# Altium footprint library MLCC.PcbLib: 10 footprints
Each footprint in its own frame and in the unit in brackets; x right, y up, seen from the top. Pads: shape width x height; smd on the part's side, far side on the other; paste and mask are expansions set on the pad; w line width, h text height; cw(c..) or ccw(c..) is an arc to the next point about the centre after c.
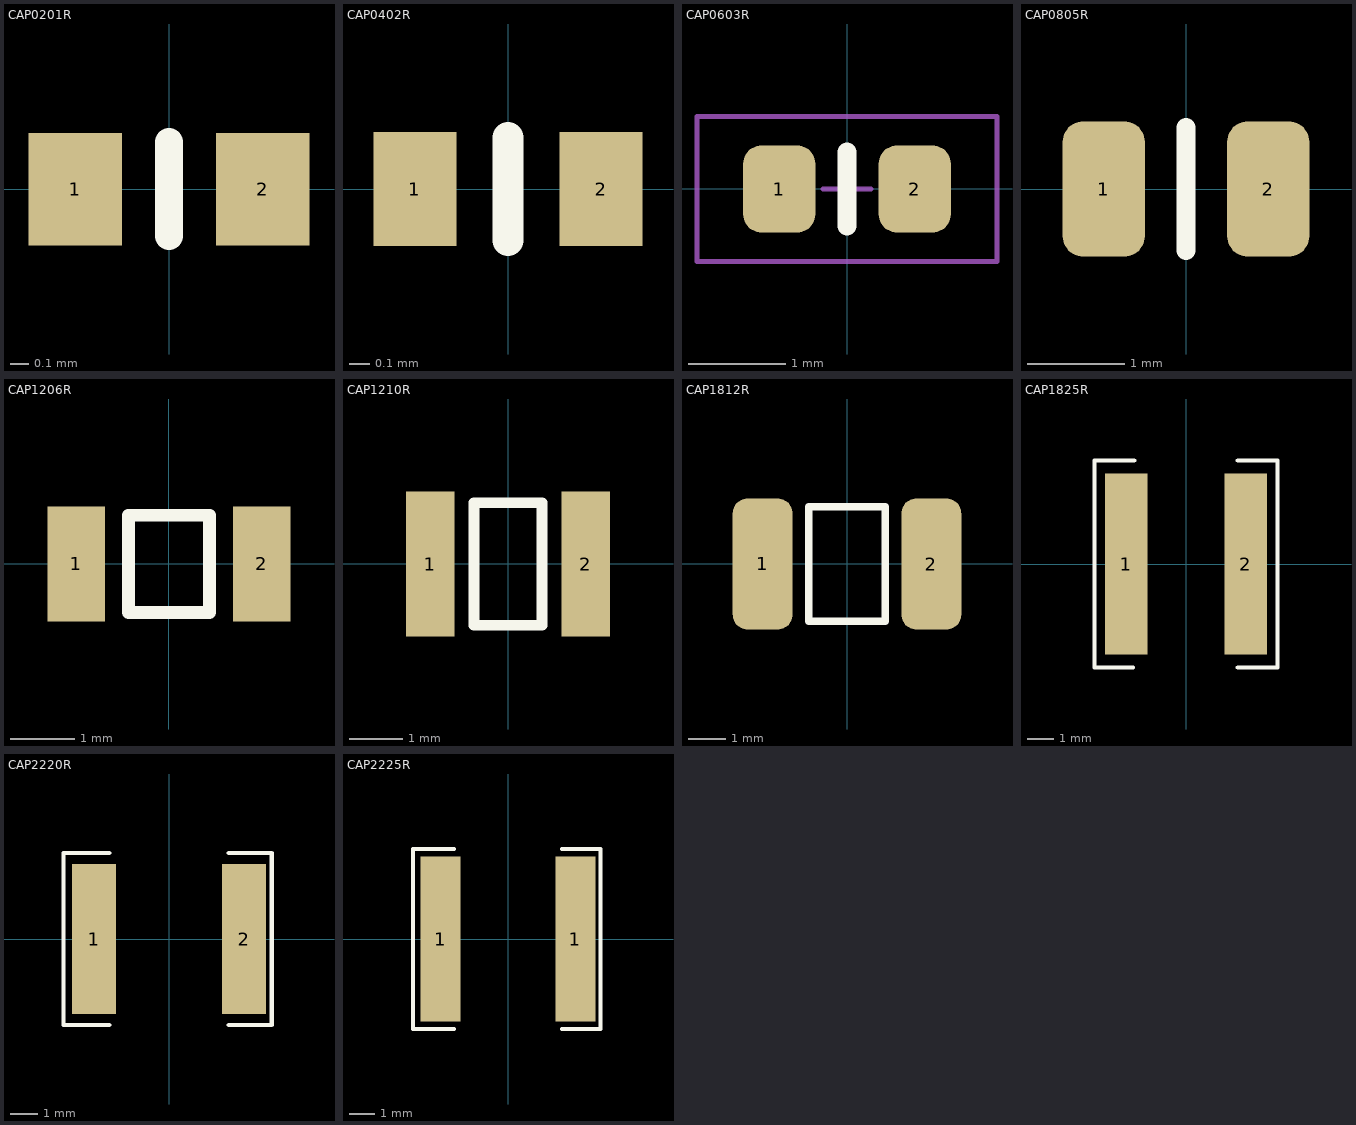
[diagram p0: the footprints below, top view; thin cyan lines are the x and y axes]

## CAP0201R [mm] "Capacitor 0402 reflow soldering"
pads (2):
  rect 0.5x0.6 smd: 1(-0.5,0) 2(0.5,0)
Top Overlay:
  lines w0.15: 0,-0.25 0,0.25
3D body "User Library-CAP_SMD-1.step": height 0.56, standoff 0.01, extent -0.525,-0.275 0.525,0.275

## CAP0402R [mm] "Capacitor 0402 reflow soldering"
pads (2):
  rect 0.4x0.55 smd: 1(-0.45,0) 2(0.45,0)
Top Overlay:
  lines w0.15: 0,-0.25 0,0.25
3D body "User Library-CAP_SMD-1.step": height 0.56, standoff 0.01, extent -0.525,-0.275 0.525,0.275

## CAP0603R [mm] "capacitor 0603 reflow soldering"
pads (2):
  rrect50% 0.745x0.9 smd: 1(-0.7,0) 2(0.7,0)
Top Overlay:
  lines w0.2: 0,-0.381 0,0.381
Mechanical 15:
  lines w0.05: -0.25,0 0.25,0 ; 0,-0.25 0,0.25 ; -1.55,-0.75 -1.55,0.75 1.55,0.75 1.55,-0.75 -1.55,-0.75
3D body "0603_CAP_2.STEP": height 0.81, standoff 0.01, extent -0.8,-0.4 0.8,0.4

## CAP0805R [mm] "capacitor 0805 reflow soldering"
pads (2):
  rrect50% 0.85x1.4 smd: 1(-0.85,0) 2(0.85,0)
Top Overlay:
  lines w0.2: 0,-0.635 0,0.635
3D body "0805_CAP.STEP": height 0.61, standoff 0.01, extent -1,-0.625 1,0.625

## CAP1206R [mm] "capacitor 1206 reflow soldering"
pads (2):
  rect 0.9x1.8 smd: 1(-1.45,0) 2(1.45,0)
Top Overlay:
  lines w0.2: -0.635,-0.762 0.635,-0.762 0.635,0.762 -0.635,0.762 -0.635,-0.762
3D body "1206_CAP.STEP": height 0.79, standoff 0.01, extent -1.6,-0.8 1.6,0.8

## CAP1210R [mm] "capacitor 1210 reflow soldering"
pads (2):
  rect 0.9x2.7 smd: 1(-1.45,0) 2(1.45,0)
Top Overlay:
  lines w0.2: -0.635,-1.143 0.635,-1.143 0.635,1.143 -0.635,1.143 -0.635,-1.143
3D body "User Library-cap_1210_lowprofile.step": height 1.3, standoff 0, extent -1.6,-1.25 1.6,1.25

## CAP1812R [mm] "capacitor 1812 reflow soldering"
pads (2):
  rrect50% 1.6x3.5 smd: 1(-2.25,0) 2(2.25,0)
Top Overlay:
  lines w0.2: -1.016,-1.524 1.016,-1.524 1.016,1.524 -1.016,1.524 -1.016,-1.524
3D body "User Library-cap1812_cap1812_body.STEP": height 1.22, standoff -0.02, extent -2.25,-1.6 2.25,1.6

## CAP1825R [mm] "capacitor 1825 reflow soldering"
pads (2):
  rect 1.6x6.8 smd: 1(-2.25,0) 2(2.25,0)
Top Overlay:
  lines w0.152: -2,-3.9 -3.45,-3.9 -3.45,3.9 -1.95,3.9 ; 1.95,-3.9 3.45,-3.9 3.45,3.9 1.95,3.9

## CAP2220R [mm] "capacitor 2220 reflow soldering"
pads (2):
  rect 1.6x5.4 smd: 1(-2.7,0) 2(2.7,0)
Top Overlay:
  lines w0.152: -2.15,-3.1 -3.8,-3.1 -3.8,3.1 -2.15,3.1 ; 2.15,-3.1 3.7,-3.1 3.7,3.1 2.15,3.1

## CAP2225R [mm] "capacitor 2225 reflow soldering"
pads (2):
  rect 1.6x6.6 smd: 1(-2.7,0) 1(2.7,0)
Top Overlay:
  lines w0.152: -2.15,-3.6 -3.8,-3.6 -3.8,3.6 -2.15,3.6 ; 2.15,-3.6 3.7,-3.6 3.7,3.6 2.15,3.6